# Altium footprint library 电容.PcbLib: 177 footprints (part 12 of 12)
Each footprint in its own frame and in the unit in brackets; x right, y up, seen from the top. Pads: shape width x height; smd on the part's side, far side on the other; paste and mask are expansions set on the pad; w line width, h text height; cw(c..) or ccw(c..) is an arc to the next point about the centre after c.
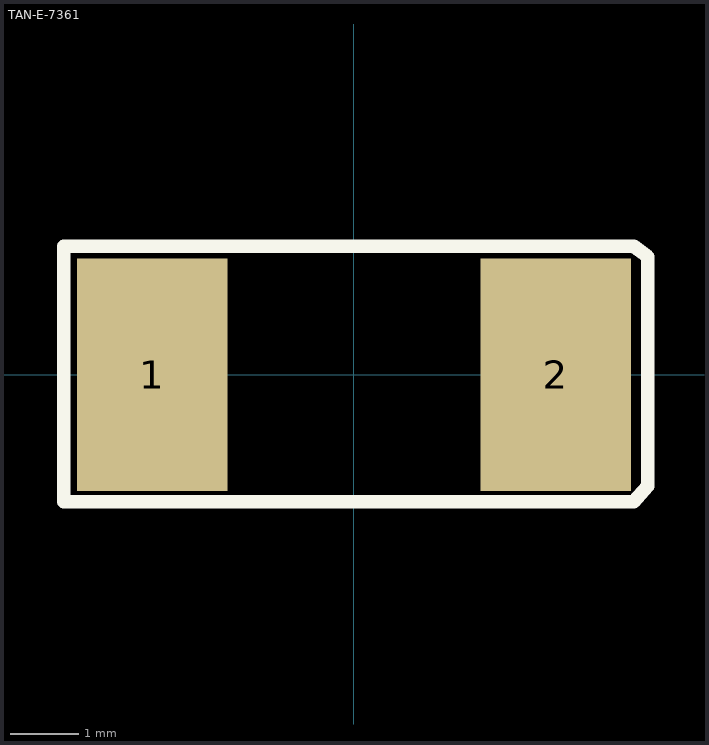
[diagram p11: the footprint, top view; thin cyan lines are the x and y axes]

## TAN-E-7361 [mm]
pads (2):
  rect 2.2x3.4 smd: 1(-2.95,0) 2(2.95,0)
Top Overlay:
  lines w0.2: -4.242,-1.854 4.089,-1.854 4.293,-1.626 4.293,1.727 4.089,1.88 -4.242,1.88 -4.242,-0.051 -4.242,-1.854
3D body: height 4.1, standoff 0, extent -3.65,-2.15 3.65,2.15